# EAGLE library part AT25DF321A (library misc)
32-Megabit 2.7-volt Minimum SPI Serial Flash Memory Datasheet <https://static.chipdip.ru/lib/314/DOC000314047.pdf>
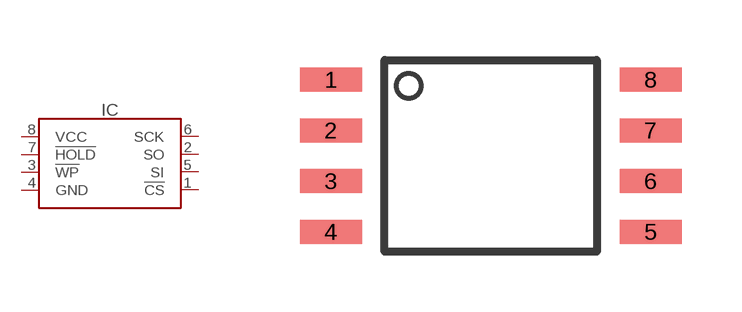
[diagram p99: symbol with the pads of SOIC8-208MIL; footprint SOIC8-208MIL]

Designator prefix IC

## AT25DF321A (MANF: RENESAS; MANF#: AT25DF321A-SH-T)  [SOIC8-208MIL]
1  !CS  in
2  SO  in
3  !WP  in
4  GND  pas
5  SI  hiz
6  SCK  in
7  !HOLD  in
8  VCC  pas

## Footprint SOIC8-208MIL (pad centres in mm)
https://www.ti.com/lit/ds/snvsaq5a/snvsaq5a.pdf?ts=1602424164509
smd 1.55 x 0.6: 1 -4,1.905; 2 -4,0.635; 3 -4,-0.635; 4 -4,-1.905; 5 4,-1.905; 6 4,-0.635; 7 4,0.635; 8 4,1.905